# Altium integrated library Ref_altium lib_R0.IntLib: 381 symbols (part 3 of 4)
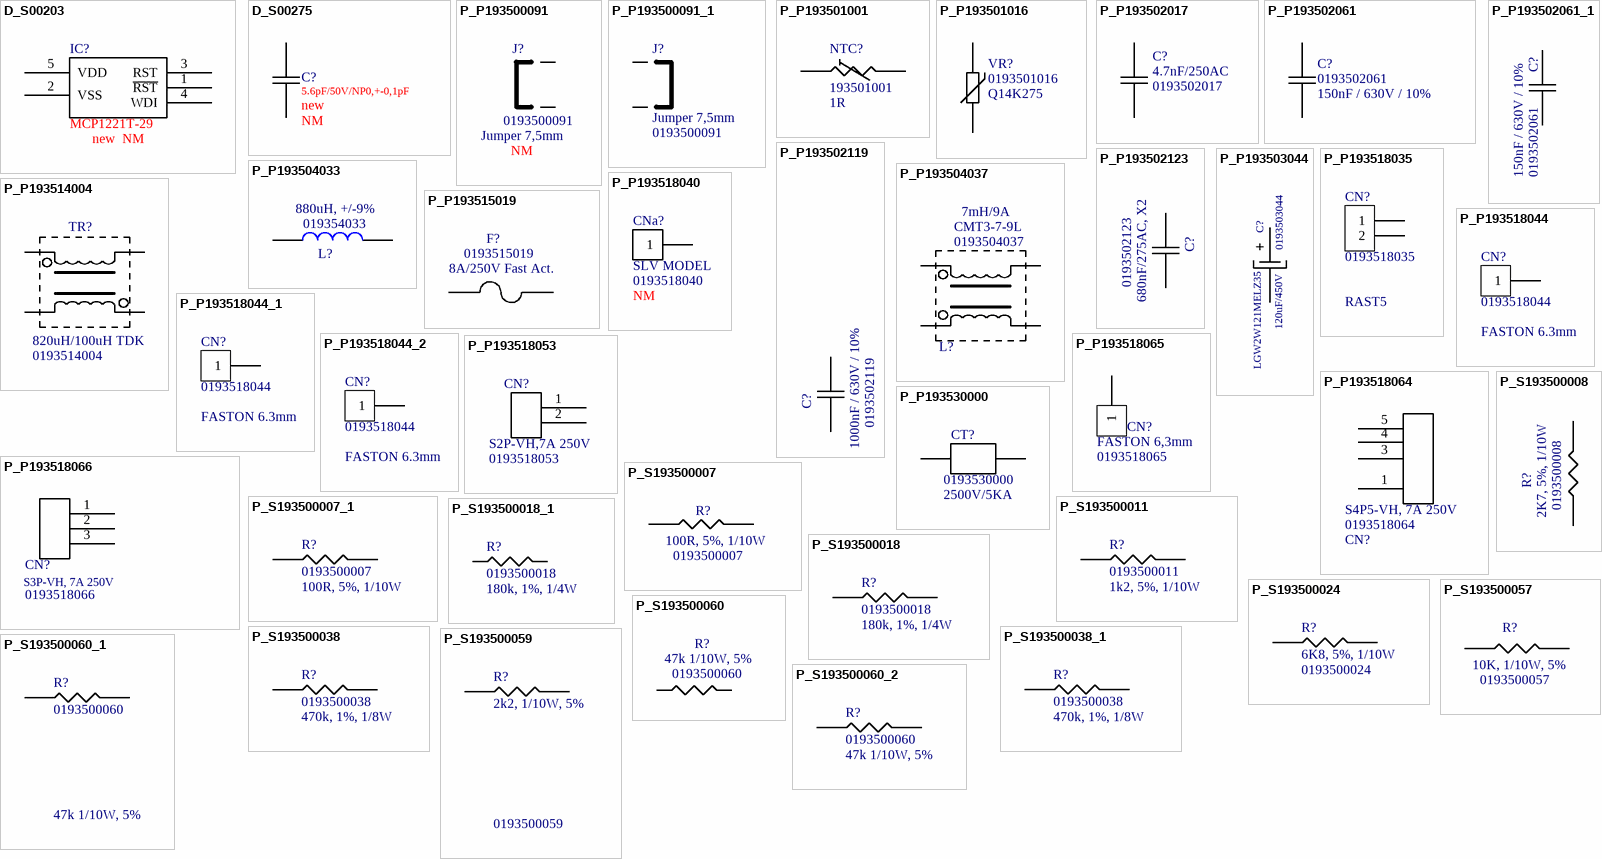
[diagram p13: symbols D_S00203 to P_S193500060_2]

## P_P193503044
designator C?  value 120uF/450V  EECON CODE: 0193503044  Text Field1: LGW2W121MELZ35  (hidden comment: *)
120uF/450V; Text Field2: NICHICON; COMPONENT: Capacitor Eletrolítico 120uF/450V/1,22A/25x30
footprint CAP-ELETR-TAM-B_V0
footprint C10X22_V0
pins: 1, 2
text: +

## P_P193504033
designator L?  value 880uH, +/-9%  EECON CODE: 019354033  (hidden comment: *)
TOROIDAL INDUCTOR - 880uH; Text Field1: AMS-225060-1-096; Text Field2: ARNOLD; COMPONENT: TOROIDAL INDUCTOR - 880uH
footprint Indutor_B
footprint INDUTOR_B_C
pins: 1, 2

## P_P193504037
designator L?  value 7mH/9A  Text Field2: CMT3-7-9L  EECON CODE: 0193504037  (hidden comment: *)
CHOKE INDUCTOR, 7mH/9A; Text Field3: Coilcraft; COMPONENT: CHOKE INDUCTOR, 7mH/9A
footprint IND_CMT3_7-9_L_V0
footprint IND_TF4725VU_TF3435_V0
pins: 1, 2, 3, 4

## P_P193514004
designator TR?  value 820uH/100uH TDK  EECON CODE: 0193514004  (hidden comment: P_P193514004)
TRANSFORMER 820uH/100uH; COMPONENT: SMPS TRANSFORMER 820uH/100uH; Text Field2: TDK; Text Field1: SRW10ES-U01V002
footprint TRAFO_TDK
pins: 1, 4, 5, 8

## P_P193515019
designator F?, comment value 8A/250V Fast Act.  EECON CODE: 0193515019  (hidden comment: Comment)
FUSE, 8A/250V Fast Act.; Text Field2: SCHURTER; COMPONENT: FUSE, SP5x20 PIGTAIL MODEL, 8A/250V FAST ACT; Text Field1: 0001.1013.TR @ T&R 1000 pçs
footprint FUSE_R_V0
footprint FUSE_O_V0
footprint FUSE_SP_5X20_PGT_V0
pins: 1, 2

## P_P193518035
designator CN?  value RAST5  EECON CODE: 0193518035  (hidden comment: P_P193518035)
POWER CON., PITCH 5mm / RAST5; COMPONENT: AC POWER CONECTOR - PITCH 5mm SERIE ECO-DOMO/RAST5; Text Field2: STOCKO; Text Field1: MTL2S8432-6-00A-202@PKG BOX 525
footprint CON MTL2_RAST5
footprint CON MTL2_RAST5_V2
pins: 1, 2

## P_P193518040
designator CNa?, comment value SLV MODEL  EECON CODE: 0193518040  OBS: NM  (hidden comment: Comment)
HEADER CON, SLV MODEL, 1 WAY; COMPONENT: HEADER CONNECTOR, SLV MODEL, 1 WAY; Text Field1: RTB1.51F(LF) @ BOX 1000PÇS; Text Field2: JST
footprint CON-SLV_V0
pins: 1

## P_P193518044
designator CN?  value FASTON 6.3mm  EECON CODE: 0193518044  (hidden comment: P_P193518044)
FASTON- 6.3 SERIES; Text Field2: AMP; Text Field1: 1217754-1; COMPONENT: TAB - FASTON - PC BOARD - 6.3 SERIES
footprint CON-FASTON-250_V0
footprint CON-FASTON-250_V1
footprint CON-FASTON-250_V3
footprint CON MTL3_RAST5_V2
pins: 1

## P_P193518044_1
designator CN?, comment value FASTON 6.3mm  EECON CODE: 0193518044  (hidden comment: P_P193518044)
FASTON- 6.3 SERIES; Text Field2: AMP; Text Field1: 1217754-1; COMPONENT: TAB - FASTON - PC BOARD - 6.3 SERIES
footprint CON-FASTON-250_V0
footprint CON-FASTON-250_V1
footprint CON-FASTON-250_V3
footprint CON-FASTON-250_V4
pins: 1

## P_P193518044_2
designator CN?, comment value FASTON 6.3mm  EECON CODE: 0193518044  (hidden comment: P_P193518044)
FASTON- 6.3 SERIES; Text Field2: AMP; Text Field1: 1217754-1; COMPONENT: TAB - FASTON - PC BOARD - 6.3 SERIES
footprint CON-FASTON-250_V0
footprint CON-FASTON-250_V1
footprint CON-FASTON-250_V3
pins: 1

## P_P193518053
designator CN?  value S2P-VH,7A 250V  EECON CODE: 0193518053  (hidden comment: *)
CON. VH SERIES SIDE W STAB., 7A 250V; COMPONENT: VH SERIES 2 WAYS, SIDE ENTRY TYPE WITH STABILIZER, 7A 250V; Text Field2: JST; Text Field1: S2P-VH (LF)(SN)
footprint CON-B2PS-VH_V0
footprint CON-S2P-VH_V0
pins: 1, 2

## P_P193518064
designator CN?  value S4P5-VH, 7A 250V  EECON CODE: 0193518064  (hidden comment: P_P193518064)
CON. VH SERIES SIDE W STAB., 7A 250V; COMPONENT: VH SERIES 5 WAYS/WITHOUT 4 WAY , SIDE ENTRY TYPE WITH STABILIZER, 7A 250V; Text Field2: JST; Text Field1: S4P5-VH (LF)(SN)
footprint CON-B3P-VH_V1
footprint CON-B4P5-VH_V0
footprint CON-B4P5S-VH_V0
pins: 1, 3, 4, 5

## P_P193518065
designator CN?, comment value FASTON 6,3mm  EECON CODE: 0193518065  (hidden comment: Tipo)
TAB FASTON VERTICAL 6.3; COMPONENT: FASTON TERMINAL VERTICAL 6,3mm; Text Field2: Tyco; Text Field1: 63849-1
footprint CON-FASTON-250_V0
footprint CON-FASTON-250_V1
footprint CON-FASTON-250_V3
footprint FASTON-48-SL_V2
footprint CON01QC-H-D
footprint CON-FASTON-250_V0
pins: 1

## P_P193518066
designator CN?  value S3P-VH, 7A 250V  EECON CODE: 0193518066  (hidden comment: P_P193518066)
CON. VH SERIES SIDE W STAB., 7A 250V; COMPONENT: VH SERIES, SIDE ENTRY TYPE WITH STABILIZER, 7A 250V; Text Field2: JST; Text Field1: S3P-VH (LF)(SN)
footprint CON-B3PS-VH_V0
footprint CON-S3P-VH_V0
pins: 1, 2, 3

## P_P193530000
designator CT?, comment value 2500V/5KA  EECON CODE: 0193530000  (hidden comment: D_P00088)
SURGE ARRESTER 2500V/5KA; Text Field2: EPCOS; COMPONENT: Surger Arrester 2500V/5KA; Text Field1: B88069X2190T502
footprint Centelhador
pins: 1, 2

## P_S193500007
designator R?  value 100R, 5%, 1/10W  EECON CODE: 0193500007
RES.,100R,1/10W,5%; COMPONENT: RES., 0603 SIZE, 100R, 5%, 1/10W; Text Field2: PHYCOMP; Text Field3: 2322 702 70101L @ REEL 13" 10000PÇS; Text Field5: 2322 702 81101L@ REEL 13" 20000PÇS; Text Field1: 2322 702 60101L @ REEL 7" 5000PÇS; Text Field4: PHYCOMP; Text Field6: PHYCOMP
footprint 0603_R_V0
footprint 0603_O_V0
pins: 1, 2

## P_S193500007_1
designator R?  value 100R, 5%, 1/10W  EECON CODE: 0193500007
RES.,100R,1/10W,5%; COMPONENT: RES., 0603 SIZE, 100R, 5%, 1/10W; Text Field3: 2322 702 70101L @ REEL 13" 10000PÇS; Text Field2: PHYCOMP; Text Field1: 2322 702 60101L @ REEL 7" 5000PÇS; Text Field5: 2322 702 81101L@ REEL 13" 20000PÇS; Text Field4: PHYCOMP; Text Field6: PHYCOMP
footprint 0603_R_V0
footprint 0603_O_V0
footprint 0805_R_V0
pins: 1, 2

## P_S193500008
designator R?  value 2K7, 5%, 1/10W  EECON CODE: 0193500008  (hidden comment: P_S193500008)
RES.,2K7,1/10W,5%; COMPONENT: RES., 0603 SIZE, 2K7R, 5%, 1/10W; Text Field2: PHYCOMP; Text Field3: 2322 702 70272L @ REEL 10" 10000PÇS; Text Field5: 2322 702 60272L @ REEL 7" 5000PÇS; Text Field1: 2322 702 81272L @ REEL 13" 20000PÇS; Text Field4: PHYCOMP; Text Field6: PHYCOMP
footprint 0603_R_V0
footprint 0603_O_V0
footprint 0603_R_V3
pins: 1, 2
1 alternate drawing of the same symbol

## P_S193500011
designator R?  value 1k2, 5%, 1/10W  EECON CODE: 0193500011  (hidden comment: P_S193500011)
RES.,1k2,1/10W,5%; COMPONENT: RES.,1k2R, 5%, 1/10W; Text Field2: PHYCOMP; Text Field3: 2322 702 70122L@ REEL 10" 10000PÇS; Text Field5: 2322 702 60122L@ REEL 7" 5000PÇS; Text Field1: 2322 702 81122L@ REEL 13" 20000PÇS; Text Field4: PHYCOMP; Text Field6: PHYCOMP
footprint 0603_R_V0
footprint 0603_O_V0
pins: 1, 2

## P_S193500018
designator R?  value 180k, 1%, 1/4W  EECON CODE: 0193500018  (hidden comment: P_S193500018)
RES.,180k,11/4W,1%; COMPONENT: RES., 1206 SIZE, 180k, 1%, 1/4W; Text Field2: PHYCOMP; Text Field3: 2322 724 71804L @ REEL 10000PÇS; Text Field5: 2322 724 61804L @ REEL 5000PÇS; Text Field1: 2322 724 81804L @ REEL 20000PÇS; Text Field4: PHYCOMP; Text Field6: PHYCOMP
footprint 1206_R_V0
footprint 1206_O_V0
pins: 1, 2

## P_S193500018_1
designator R?, comment value 180k, 1%, 1/4W  EECON CODE: 0193500018  (hidden comment: P_S193500018)
RES.,180k,11/4W,1%; COMPONENT: RES., 1206 SIZE, 180k, 1%, 1/4W; Text Field1: 2322 724 81804L @ REEL 20000PÇS; Text Field2: PHYCOMP; Text Field3: 2322 724 71804L @ REEL 10000PÇS; Text Field5: 2322 724 61804L @ REEL 5000PÇS; Text Field4: PHYCOMP; Text Field6: PHYCOMP
footprint 1206_R_V0
footprint 1206_O_V0
pins: 1, 2

## P_S193500024
designator R?  value 6K8, 5%, 1/10W  EECON CODE: 0193500024  (hidden comment: P_S193500024)
RES.,6K8,1/10W, 5%; COMPONENT: RES., 0603 SIZE, 6K8R, 5%, 1/10W; Text Field2: PHYCOMP; Text Field3: 2322 702 70682L @ REEL 10000PÇS; Text Field5: 2322 702 60682L @ REEL 5000PÇS; Text Field1: 2322 702 81682L @ REEL 20000PÇS; Text Field4: PHYCOMP; Text Field6: PHYCOMP
footprint 0603_R_V0
footprint 0603_O_V0
pins: 1, 2

## P_S193500038
designator R?  value 470k, 1%, 1/8W  EECON CODE: 0193500038  (hidden comment: P_S193500038)
RES.,470k 1/8W, 1%,; Text Field1: 2322 734 84704L @ REEL 20000PÇS; Text Field2: PHYCOMP; Text Field3: 2322 734 74704L @ REEL 10000PÇS; Text Field5: 2322 734 64704L @ REEL 5000PÇS; COMPONENT: RES., 0805 SIZE, 470k, 1%, 1/8W; Text Field4: PHYCOMP; Text Field6: PHYCOMP
footprint 0805_R_V0
footprint 0805_O_V0
footprint 0805_R_V3
pins: 1, 2

## P_S193500038_1
designator R?, comment value 470k, 1%, 1/8W  EECON CODE: 0193500038  (hidden comment: 330K / 0805)
RES.,470k 1/8W, 1%,; Text Field1: 2322 734 84704L @ REEL 20000PÇS; Text Field2: PHYCOMP; Text Field3: 2322 734 74704L @ REEL 10000PÇS; Text Field5: 2322 734 64704L @ REEL 5000PÇS; COMPONENT: RES., 0805 SIZE, 470k, 1%, 1/8W; Text Field4: PHYCOMP; Text Field6: PHYCOMP
footprint 0805_R_V0
footprint 0805_O_V0
pins: 1, 2

## P_S193500057
designator R?  value 10K, 1/10W, 5%  EECON CODE: 0193500057  (hidden comment: P_S193500057)
RES.,10k,1/10W,5%; COMPONENT: RES., 0603 SIZE, 10k, 1/10W, 5%; Text Field2: PHYCOMP; Text Field3: 2322 702 81103L @ REEL 20000PÇS; Text Field5: 2322 702 70103L @ REEL 10000PÇS; Text Field7: MCR03EZPJ103 @ PAPER TAPE 5000PÇS; Text Field1: 2322 702 60103L @ REEL 5000PÇS; Text Field8: ROHM; Text Field9: MCR03MZPJ103 @ PAPER TAPE 10000PÇS; Text Field11: RC0603JR-0710KL @ Reel 5000PÇS; Text Field12: YAGEO; Text Field13: RC0603JR-1010KL @ Reel 10000PÇS; Text Field15: RC0603JR-1310KL @ Reel 20000PÇS; Text Field4: PHYCOMP; Text Field6: PHYCOMP; Text Field14: YAGEO; Text Field16: YAGEO; Text Field10: ROHM
footprint 0603_R_V0
footprint 0603_O_V0
pins: 1, 2
1 alternate drawing of the same symbol

## P_S193500059
designator R?  value 2k2, 1/10W, 5%  EECON CODE: 0193500059  (hidden comment: P_S193500059)
RES.,2k2,1/10W,5%; COMPONENT: RES., 0603 SIZE,2k2R, 1/10W, 5%; Text Field2: PHYCOMP; Text Field3: 2322 702 70222L @ REEL 10000PÇS; Text Field5: 2322 702 81222L @ REEL 20000PÇS; Text Field7: ROHM; Text Field1: 2322 702 60222L @ REEL 5000PÇS; Text Field8: MCR03 EZP J 222 @ PAPER TAPE 5000PÇS; Text Field4: PHYCOMP; Text Field6: PHYCOMP; Text Field9: ROHM
footprint 0603_R_V0
footprint 0603_O_V0
pins: 1, 2
1 alternate drawing of the same symbol

## P_S193500060
designator R?, comment value 47k 1/10W, 5%  EECON CODE: 0193500060  (hidden comment: P_S193500014)
RES,47k,1/10W,5%; Text Field1: 2322 702 60473L @ TAPE REEL 5000PÇS; Text Field2: PHYCOMP; Text Field5: 2322 702 81473L @ TAPE REEL 20000PÇS; Text Field7: MCR03 EZH J 473 @ PAPER TAPE 5000PÇS; COMPONENT: Res 0603 SIZE, 47k, 1/10W, 5%; Text Field8: ROHM; Text Field9: MCR03 EZP J 473 @ PAPER TAPE 5000PÇS; TextField3: 2322 702 70473L @ TAPE REEL 10000PÇS; Text Field4: PHYCOMP; Text Field6: PHYCOMP; Text Field10: ROHM
footprint 0603_R_V0
footprint 0603_O_V0
pins: 1, 2
1 alternate drawing of the same symbol

## P_S193500060_1
designator R?, comment value 47k 1/10W, 5%  EECON CODE: 0193500060  (hidden comment: P_S193500060)
RES,47k,1/10W,5%; COMPONENT: Res 0603 SIZE, 47k, 1/10W, 5%; Text Field2: PHYCOMP; Text Field5: 2322 702 81473L @ TAPE REEL 20000PÇS; Text Field7: MCR03 EZH J 473 @ PAPER TAPE 5000PÇS; Text Field1: 2322 702 60473L @ TAPE REEL 5000PÇS; Text Field8: ROHM; TextField3: 2322 702 70473L @ TAPE REEL 10000PÇS; Text Field9: MCR03 EZP J 473 @ PAPER TAPE 5000PÇS; Text Field4: PHYCOMP; Text Field6: PHYCOMP; Text Field10: ROHM
footprint 0603_R_V0
footprint 0603_O_V0
pins: 1, 2
1 alternate drawing of the same symbol

## P_S193500060_2
designator R?, comment value 47k 1/10W, 5%  EECON CODE: 0193500060  (hidden comment: P_S193500060)
RES,47k,1/10W,5%; COMPONENT: Res 0603 SIZE, 47k, 1/10W, 5%; Text Field1: 2322 702 60473L @ TAPE REEL 5000PÇS; Text Field2: PHYCOMP; Text Field5: 2322 702 81473L @ TAPE REEL 20000PÇS; Text Field7: MCR03 EZH J 473 @ PAPER TAPE 5000PÇS; Text Field8: ROHM; TextField3: 2322 702 70473L @ TAPE REEL 10000PÇS; Text Field9: MCR03 EZP J 473 @ PAPER TAPE 5000PÇS; Text Field6: PHYCOMP; Text Field4: PHYCOMP; Text Field10: ROHM
footprint 0603_R_V0
footprint 0603_O_V0
footprint 0603_R_V3
pins: 1, 2
1 alternate drawing of the same symbol

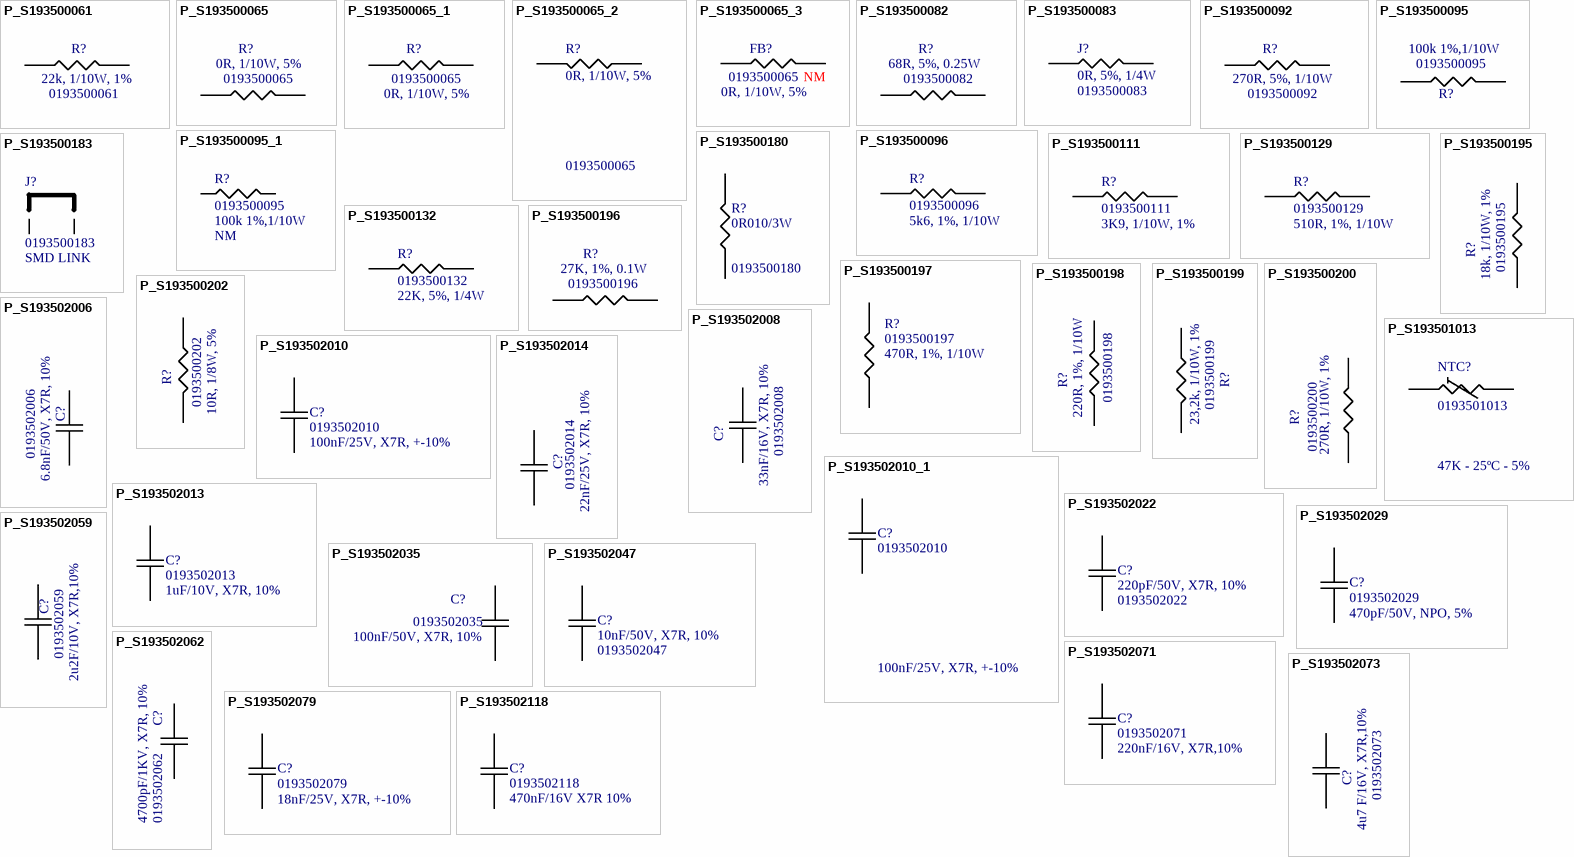
[diagram p7: symbols P_S193500061 to P_S193502118]

## P_S193500061
designator R?  value 22k, 1/10W, 1%  EECON CODE: 0193500061
RES.,22k,1/10W,1%; COMPONENT: RES 0603 SIZE, 22k, 1/10W, 1%; Text Field2: PHYCOMP; Text Field3: 2322 704 72203L @ TAPE RELL 10000PÇS; Text Field5: 2322 704 82203L @ TAPE RELL 20000PÇS; Text Field7: MCR03 EZH F 2202 @ PAPER TAPE 5000PÇS; Text Field1: 2322 704 62203L @ TAPE RELL 5000PÇS; Text Field8: ROHM; Text Field9: MCR03 EZP F 2202 @ PAPER TAPE 5000PÇS; Text Field4: PHYCOMP; Text Field6: PHYCOMP; Text Field10: ROHM
footprint 0603_R_V0
footprint 0603_O_V0
pins: 1, 2

## P_S193500065
designator R?  value 0R, 1/10W, 5%  EECON CODE: 0193500065  (hidden comment: P_S193500065)
RES.,0R,1/10W,5%; COMPONENT: RES., 0603 SIZE, 0R, 1/10W, 5%; Text Field2: PHYCOMP; Text Field3: 2322 702 97001L @ PAPER TAPE 10000PÇS; Text Field5: 2322 702 92002L @ PAPER TAPE 20000PÇS; Text Field1: 2322 702 96001L @ PAPER TAPE 5000PÇS; Text Field26: 0603WAJ000T5E @ TAPE RELL 5000PÇS; Text Field9: 0603WAJ000TAE @ TAPE RELL 500PÇS; Text Field13: ROYAL OHM; Text Field16: 0603WAJ000TDE @ TAPE RELL 20000PÇS; Text Field14: 0603WAJ000TCE @ TAPE RELL 10000PÇS; Text Field11: 0603WAJ000T9E @ TAPE RELL 9000PÇS; Text Field18: 0603WAJ000T1E @ TAPE RELL1000PÇS; Text Field20: 0603WAJ000T2E @ TAPE RELL 2000PÇS; Text Field22: 0603WAJ000T3E @ TAPE RELL 3000PÇS; Text Field24: 0603WAJ000T4E @ TAPE RELL 4000PÇS; Text Field4: PHYCOMP; Text Field6: PHYCOMP; Text Field10: ROYAL OHM; Text Field15: ROYAL OHM; Text Field17: ROYAL OHM; Text Field19: ROYAL OHM; TextField21: ROYAL OHM; Text Field23: ROYAL OHM; Text Field25: ROYAL OHM; Text Field27: ROYAL OHM
footprint 0603_R_V0
footprint 0603_O_V0
footprint 0603_R_V3
pins: 1, 2

## P_S193500065_1
designator R?, comment value 0R, 1/10W, 5%  EECON CODE: 0193500065  (hidden comment: P_S193500065)
RES.,0R,1/10W,5%; COMPONENT: RES., 0603 SIZE, 0R, 1/10W, 5%; Text Field2: PHYCOMP; Text Field3: 2322 702 97001L @ PAPER TAPE 10000PÇS; Text Field5: 2322 702 92002L @ PAPER TAPE 20000PÇS; Text Field1: 2322 702 96001L @ PAPER TAPE 5000PÇS; Text Field9: 0603WAJ000TAE @ TAPE RELL 500PÇS; Text Field13: ROYAL OHM; Text Field16: 0603WAJ000TDE @ TAPE RELL 20000PÇS; Text Field14: 0603WAJ000TCE @ TAPE RELL 10000PÇS; Text Field11: 0603WAJ000T9E @ TAPE RELL 9000PÇS; Text Field26: 0603WAJ000T5E @ TAPE RELL 5000PÇS; Text Field18: 0603WAJ000T1E @ TAPE RELL1000PÇS; Text Field20: 0603WAJ000T2E @ TAPE RELL 2000PÇS; Text Field22: 0603WAJ000T3E @ TAPE RELL 3000PÇS; Text Field24: 0603WAJ000T4E @ TAPE RELL 4000PÇS; Text Field4: PHYCOMP; Text Field6: PHYCOMP; Text Field10: ROYAL OHM; Text Field15: ROYAL OHM; Text Field17: ROYAL OHM; Text Field19: ROYAL OHM; TextField21: ROYAL OHM; Text Field23: ROYAL OHM; Text Field25: ROYAL OHM; Text Field27: ROYAL OHM
footprint 0603_R_V0
footprint 0603_O_V0
footprint 0603_R_V3
pins: 1, 2
1 alternate drawing of the same symbol

## P_S193500065_2
designator R?, comment value 0R, 1/10W, 5%  EECON CODE: 0193500065  (hidden comment: P_S193500065)
RES.,0R,1/10W,5%; Text Field2: PHYCOMP; Text Field3: 2322 702 97001L @ PAPER TAPE 10000PÇS; Text Field5: 2322 702 92002L @ PAPER TAPE 20000PÇS; COMPONENT: RES., 0603 SIZE, 0R, 1/10W, 5%; Text Field1: 2322 702 96001L @ PAPER TAPE 5000PÇS; Text Field26: 0603WAJ000T5E @ TAPE RELL 5000PÇS; Text Field9: 0603WAJ000TAE @ TAPE RELL 500PÇS; Text Field13: ROYAL OHM; Text Field16: 0603WAJ000TDE @ TAPE RELL 20000PÇS; Text Field14: 0603WAJ000TCE @ TAPE RELL 10000PÇS; Text Field11: 0603WAJ000T9E @ TAPE RELL 9000PÇS; Text Field18: 0603WAJ000T1E @ TAPE RELL1000PÇS; Text Field20: 0603WAJ000T2E @ TAPE RELL 2000PÇS; Text Field22: 0603WAJ000T3E @ TAPE RELL 3000PÇS; Text Field24: 0603WAJ000T4E @ TAPE RELL 4000PÇS; Text Field4: PHYCOMP; Text Field6: PHYCOMP; Text Field10: ROYAL OHM; Text Field15: ROYAL OHM; Text Field17: ROYAL OHM; Text Field19: ROYAL OHM; TextField21: ROYAL OHM; Text Field23: ROYAL OHM; Text Field25: ROYAL OHM; Text Field27: ROYAL OHM
footprint 0603_R_V0
footprint 0603_O_V0
footprint 0805_R_V3
pins: 1, 2

## P_S193500065_3
designator FB?  value 0R, 1/10W, 5%  EECON CODE: 0193500065  OBS: NM  (hidden comment: *)
RES.,0R,1/10W,5%; Text Field3: 2322 702 97001L @ PAPER TAPE 10000PÇS; Text Field2: PHYCOMP; COMPONENT: RES., 0603 SIZE, 0R, 1/10W, 5%; Text Field5: 2322 702 92002L @ PAPER TAPE 20000PÇS; Text Field1: 2322 702 96001L @ PAPER TAPE 5000PÇS; Text Field26: 0603WAJ000T5E @ TAPE RELL 5000PÇS; Text Field9: 0603WAJ000TAE @ TAPE RELL 500PÇS; Text Field13: ROYAL OHM; Text Field16: 0603WAJ000TDE @ TAPE RELL 20000PÇS; Text Field14: 0603WAJ000TCE @ TAPE RELL 10000PÇS; Text Field11: 0603WAJ000T9E @ TAPE RELL 9000PÇS; Text Field18: 0603WAJ000T1E @ TAPE RELL1000PÇS; Text Field20: 0603WAJ000T2E @ TAPE RELL 2000PÇS; Text Field22: 0603WAJ000T3E @ TAPE RELL 3000PÇS; Text Field24: 0603WAJ000T4E @ TAPE RELL 4000PÇS; Text Field4: PHYCOMP; Text Field6: PHYCOMP; Text Field10: ROYAL OHM; Text Field15: ROYAL OHM; Text Field17: ROYAL OHM; Text Field19: ROYAL OHM; TextField21: ROYAL OHM; Text Field23: ROYAL OHM; Text Field25: ROYAL OHM; Text Field27: ROYAL OHM
footprint 0603_R_V0
footprint 0603_O_V0
footprint 0805_R_V3
pins: 1, 2

## P_S193500082
designator R?  value 68R, 5%, 0.25W  EECON CODE: 0193500082  (hidden comment: *)
RES.,68R,1/4W,5%; Text Field1: 2322 711 61689L @ REEL 5000PÇS; Text Field2: PHYCOMP; Text Field3: 2322 711 51689L @ REEL 10000PÇS; Text Field5: 2322 711 81689L @ REEL 20000PÇS; Text Field7: MCR18EZHJ680 @ PAPER TAPE REEL 5000PÇS; COMPONENT: RES., 1206 SIZE, 1/4W, 68R, 5%; Text Field8: ROHM; Text Field4: PHYCOMP; Text Field6: PHYCOMP
footprint 1206_R_V0
footprint 1206_O_V0
pins: 1, 2

## P_S193500083
designator J?  value 0R, 5%, 1/4W  EECON CODE: 0193500083  (hidden comment: P_S193500083)
RES.,0R,1/4W,5%; COMPONENT: RES., 1206 SIZE, 0R, 5%, 1/4W; Text Field2: ROHM; Text Field3: 2322 711 91005L @ REEL 10000 PÇS; Text Field4: PHYCOMP; Text Field5: 2322 711 91032L @ REEL 5000 PÇS; Text Field7: 2322 724 92007L @ 7" 5000 PÇS - 13" 20000PÇS; Text Field1: MCR18EZHJ000 @ PAPER TAPE 5000PÇS; Text Field9: 2322 724 92006L; Text Field8: PHYCOMP; Text  Field6: PHYCOMP; Text Field10: PHYCOMP
footprint 1206_R_V0
footprint 1206_O_V0
footprint J1206_O_V0
footprint J1206_R_V0
pins: 1, 2

## P_S193500092
designator R?  value 270R, 5%, 1/10W  EECON CODE: 0193500092  (hidden comment: *)
RES.,270R,1/10W,5%; Text Field1: 2322 702 60271L @ REEL  5000PÇS; Text Field2: PHYCOMP; Text Field3: 2322 702 70271L @ REEL  10000PÇS; Text Field5: MCR03 EZH J 271 @ PAPER TAPE 5000PÇS; Text Field6: ROHM; Text Field7: 2322 702 81271L @ REEL 20000PÇS; COMPONENT: RES., 0603 SIZE, 270R, 5%, 1/10W; Text Field9: MCR03 EZP J 271 @ PAPER TAPE 5000PÇS; Text Field4: PHYCOMP; Text Field8: PHYCOMP; Text Field10: ROHM
footprint 0603_R_V0
footprint 0603_O_V0
pins: 1, 2

## P_S193500095
designator R?  value 100k 1%,1/10W  EECON CODE: 0193500095  (hidden comment: P_S193500095)
RES.,100k,1/10W,1%; COMPONENT: RES., 0603 SIZE, 100k, 1%, 1/10W; Text Field2: PHYCOMP; Text Field3: 2322 704 71004L @ REEL 10000PÇS; Text Field5: 2322 704 81004L @ REEL 20000PÇS; Text Field1: 2322 704 61004L @ REEL 5000PÇS; Text Field4: PHYCOMP; Text Field6: PHYCOMP
footprint 0603_R_V0
footprint 0603_O_V0
pins: 1, 2

## P_S193500095_1
designator R?, comment value 100k 1%,1/10W  EECON CODE: 0193500095  OBS: NM  (hidden comment: P_S193500095)
RES.,100k,1/10W,1%; COMPONENT: RES., 0603 SIZE, 100k, 1%, 1/10W; Text Field2: PHYCOMP; Text Field3: 2322 704 71004L @ REEL 10000PÇS; Text Field5: 2322 704 81004L @ REEL 20000PÇS; Text Field1: 2322 704 61004L @ REEL 5000PÇS; Text Field4: PHYCOMP; Text Field6: PHYCOMP
footprint 0603_R_V0
footprint 0603_O_V0
pins: 1, 2

## P_S193500096
designator R?  value 5k6, 1%, 1/10W  EECON CODE: 0193500096  (hidden comment: P_S193500096)
RES.,5k6,1/10W,1%; COMPONENT: RES., 0603 SIZE, 5k6, 1%, 1/10W; Text Field2: PHYCOMP; Text Field3: 2323 704 75602L @ REEL 10000PÇS; Text Field5: 2323 704 85602L @ REEL 20000PÇS; Text Field1: 2323 704 65602L @ REEL 5000PÇS; Text Field4: PHYCOMP; Text Field6: PHYCOMP
footprint 0603_R_V0
footprint 0603_O_V0
pins: 1, 2

## P_S193500111
designator R?  value 3K9, 1/10W, 1%  EECON CODE: 0193500111  (hidden comment: P_S193500111)
RES.,3k9,1/10W,1%; COMPONENT: RES, 0603 SIZE 3k9,  1% 1/10W; Text Field2: PHYCOMP; Text Field3: 2322 704 63902L @ REEL 5000PÇS; Text Field5: 2322 704 73902L @ REEL 10000PÇS; Text Field1: 2322 704 83902L @ REEL 20000PÇS; Text Field4: PHYCOMP; Text Field6: PHYCOMP
footprint 0603_R_V0
footprint 0603_O_V0
pins: 1, 2

## P_S193500129
designator R?  value 510R, 1%, 1/10W  EECON CODE: 0193500129  (hidden comment: *)
RES.,510R,1/10W,1%; COMPONENT: RES., 0603 SIZE, 510R, 1%, 1/10W; Text Field2: PHYCOMP; Text Field3: 2322 704  75101L @ REEL 10000PÇS; Text Field5: 2322 704  65101L @ REEL 5000PÇS; Text Field1: 2322 704  85101L @ REEL 20000PÇS; Text Field4: PHYCOMP; Text Field6: PHYCOMP
footprint 0603_R_V0
footprint 0603_O_V0
pins: 1, 2

## P_S193500132
designator R?  value 22K, 5%, 1/4W  EECON CODE: 0193500132  (hidden comment: P_S193500132)
RES.,22k,1/4W,5%; Text Field1: 232271161223L @ REEL 5000PÇS; Text Field2: YAGEO; COMPONENT: RES., 1206 SIZE, 1/4W, 22k, 5%
footprint 1206_R_V0
footprint 1206_O_V0
pins: 1, 2

## P_S193500180
designator R?  value 0R010/3W  EECON CODE: 0193500180  (hidden comment: *)
Res.,Shunt 0R010 3W SMD; Text Field1: WSR3R0100FEA; Text Field2: VISHAY; COMPONENT: RESISTOR SHUNT 0R01 3W SMD
footprint Res_WSR3
footprint RES_WSR3_V1
pins: 1, 2

## P_S193500183
designator J?, comment value SMD LINK  EECON CODE: 0193500183  (hidden comment: Comment)
SMD LINK 0R 15.0X2.0MM; Text Field1: 647040126; Text Field2: FT INDUSTRIAL; COMPONENT: SMD LINK 0R 15.0X2.0MM
footprint LINK15020R
pins: 1 PINO1, 2 PINO2

## P_S193500195
designator R?  value 18k, 1/10W, 1%  EECON CODE: 0193500195  (hidden comment: *)
RES.,18k,1/10W,1%; COMPONENT: FILM RESISTOR, 0603 SIZE, 18K,  1/10W, 1%; Text Field1: 232270461803L; Text Field2: PHYCOMP
footprint 0603_R_V0
pins: 1, 2

## P_S193500196
designator R?, comment value 27K, 1%, 0.1W  EECON CODE: 0193500196  (hidden comment: 27K)
RES., 27K, 1%, 0.1W; COMPONENT: FILM RES.,0603 SIZE, 27K, 1%, 0.1W; Text Field2: PHYCOMP; Text Field1: 232270462703L  @ REEL 7" 5000PÇS
footprint 0603_R_V0
footprint 0603_O_V0
pins: 1, 2

## P_S193500197
designator R?, comment value 470R, 1%, 1/10W  EECON CODE: 0193500197  (hidden comment: 27K)
RES.,470R,1/10W,1%; Text Field1: @ REEL 5000PÇS; Text Field2: PHYCOMP; COMPONENT: RES., 0603 SIZE, 470R, 1%, 1/10W; Text Field3: @ REEL 10000PÇS; Text Field5: @ REEL 20000PÇS; Text Field4: PHYCOMP; Text Field6: PHYCOMP
footprint 0603_R_V0
footprint 0603_O_V0
pins: 1, 2

## P_S193500198
designator R?  value 220R, 1%, 1/10W  EECON CODE: 0193500198  (hidden comment: *)
RES.,220R,1/10W,1%; Text Field1: 232270462201L @ REEL 7" 5000PÇS; Text Field2: PHYCOMP; COMPONENT: RES., 0603 SIZE, 220R, 1%, 1/10W
footprint 0603_R_V0
footprint 0603_O_V0
pins: 1, 2

## P_S193500199
designator R?, comment value 23,2k, 1/10W, 1%  EECON CODE: 0193500199  (hidden comment: 27k)
RES.,23,2k,1/10W,1%; Text Field1: 232270462323L @ REEL 7" 5000PÇS; Text Field2: PHYCOMP; COMPONENT: RES 0603 SIZE, 23,2k, 1/10W, 1%
footprint 0603_R_V0
footprint 0603_O_V0
pins: 1, 2

## P_S193500200
designator R?  value 270R, 1/10W, 1%  EECON CODE: 0193500200  (hidden comment: *)
RES., 270R; 1% ; 1/10W; COMPONENT: FILM RESISTOR, 0603 SIZE, 270R,  1/10W, 1%; Text Field3: PHYCOMP; Text Field2: 232270462701L  @ Reel 5000PÇS
footprint 0603_R_V0
pins: 1, 2

## P_S193500202
designator R?  value 10R, 1/8W, 5%  EECON CODE: 0193500202  (hidden comment: *)
RES., 10R, 1/8W, 5%; Text Field2: PHYCOMP; COMPONENT: FILM RESISTOR, 0805 SIZE, 10R,  1/10W, 5%; Text Field1: 232273061109L @ Reel 5000PÇS
footprint 0805_R_V0
pins: 1, 2

## P_S193501013
designator NTC?  value 47K - 25ºC - 5%  EECON CODE: 0193501013  (hidden comment: P_S193501013)
NTC,47K,25ºC,5%; COMPONENT: NTC-THER,0603 SIZE, 47K - 25  CELSIUS - 5%; Text Field2: EPCOS; Text Field3: B57331V2473J60 @ Tape Reel 4000PÇS; Text Field1: B57321V2473J060 @ 4000PÇS; Text Field4: EPCOS
footprint 0603_R_V0
footprint 0603_O_V0
pins: 1, 2

## P_S193502006
designator C?  value 6.8nF/50V, X7R, 10%  EECON CODE: 0193502006  (hidden comment: P_S193502006)
CAP.,6.8nF/50V,X7R,10%; Text Field2: PHYCOMP; Text Field3: 2238 586 15634 @ Reel 330mm (13") 15000PÇS; Text Field5: C0603C682K5RAC7533 @ REEL 4000PÇS; COMPONENT: CAP., 0603 SIZE, 6.8nF/50V, X7R, 10%; Text Field1: 2238 586 55634 @ Reel 180mm (7") 4000PÇS; Text Field6: KEMET; Text Field4: PHYCOMP
footprint 0603_R_V0
pins: 1, 2

## P_S193502008
designator C?  value 33nF/16V, X7R, 10%  EECON CODE: 0193502008  (hidden comment: P_S193502008)
CAP.,33nF/16V,X7R,10%; COMPONENT: CAP., 0603 SIZE, 33nF/16V, X7R, 10%; Text Field2: PHYCOMP; Text Field3: 2238 786 55643@ Reel 330mm (13") 15000PÇS; Text Field5: C0603C333K4RAC7533 @ REEL 4000PÇS; Text Field1: 2238 786 15643 @ Reel 180mm (7") 4000PÇS; Text Field6: KEMET; Text Field4: PHYCOMP
footprint 0603_R_V0
footprint 0603_O_V0
pins: 1, 2

## P_S193502010
designator C?  value 100nF/25V, X7R, +-10%  EECON CODE: 0193502010  (hidden comment: *)
100nF/25V, X7R, +-10%; COMPONENT: CERAMIC CAP., 0603 SIZE, 100nF/25V, X7R, +-10%; Text Field1: 2238 916 15649 @ Paper 8mm Tape Reel 180mm (7") 4000PÇS; Text Field2: PHYCOMP; Text Field3: 2238 916 55649 @ Paper 8mm Tape Reel 330mm (13") 15000PÇS; Text Field5: VJ0603Y104KXXAC @ 7" Reel/Paper Tape % VJ0603Y104KXXAT @ 7" Reel/Plastic Tape; Text Field7: VISHAY % VISHAY; Text Field4: PHYCOMP
footprint 0603_R_V0
footprint 0603_O_V0
pins: 1, 2

## P_S193502010_1
designator C?, comment value 100nF/25V, X7R, +-10%  EECON CODE: 0193502010  (hidden comment: P_S193502010)
100nF/25V, X7R, +-10%; COMPONENT: CERAMIC CAP., 0603 SIZE, 100nF/25V, X7R, +-10%; Text Field1: 2238 916 15649 @ Paper 8mm Tape Reel 180mm (7") 4000PÇS; Text Field2: PHYCOMP; Text Field3: 2238 916 55649 @ Paper 8mm Tape Reel 330mm (13") 15000PÇS; Text Field5: VJ0603Y104KXXAC @ 7" Reel/Paper Tape % VJ0603Y104KXXAT @ 7" Reel/Plastic Tape; Text Field7: VISHAY % VISHAY; Text Field4: PHYCOMP
footprint 0603_R_V0
footprint 0603_O_V0
footprint 0603_R_V3
pins: 1, 2

## P_S193502013
designator C?  value 1uF/10V, X7R, 10%  EECON CODE: 0193502013  (hidden comment: P_S193502013)
CAP.,1uF/10V, X7R,10%; COMPONENT: CAP., 0805 SIZE, 1uF/10V, X7R, +-10%; Text Field2: PHYCOMP; Text Field3: 2222 240 55663 @ Reel (13") 10000PÇS; Text Field1: 2222 240 15663 @ Reel (7") 3000PÇS; Text Field4: PHYCOMP
footprint 0805_R_V0
footprint 0805_O_V0
pins: 1, 2

## P_S193502014
designator C?  value 22nF/25V, X7R, 10%  EECON CODE: 0193502014  (hidden comment: P_S193502014)
CAP.,22nF/25V, X7R,10%; COMPONENT: CAP., 0603 SIZE, 22nF/25V, X7R, 10%; Text Field2: PHYCOMP; Text Field3: 2238 916 55641 @ Reel (13") 15000PÇS; Text Field1: 2238 916 15641 @ Reel (7") 4000PÇS; Text Field4: PHYCOMP
footprint 0603_R_V0
footprint 0603_O_V0
pins: 1, 2

## P_S193502022
designator C?  value 220pF/50V, X7R, 10%  EECON CODE: 0193502022  (hidden comment: P_S193502022)
CAP.,220pF/50V, X7R,10%; COMPONENT: CAP., 0603 SIZE, 220pF/50V, X7R, 10%; Text Field2: PHYCOMP; Text Field3: 2238 586 55614 @ (13")  15000PÇS; Text Field1: 2238 586 15614 @ (7") 4000PÇS; Text  Field5: C0603C221K1GAC7533 @ Reel 4000; Text  Field6: KEMET; Text Field4: PHYCOMP
footprint 0603_R_V0
footprint 0603_O_V0
pins: 1, 2

## P_S193502029
designator C?  value 470pF/50V, NPO, 5%  EECON CODE: 0193502029  (hidden comment: P_S193502029)
CAP.,470pF/50V,NPO,5%; Text Field2: PHYCOMP; Text Field3: 2238 861 75471 @ Reel (13") 20000PÇS; COMPONENT: CAP., 0805 SIZE, 470pF/50V, NPO, 5%; Text Field1: 2238 861 15471 @ Reel (7") 4000PÇS; Text Field4: PHYCOMP
footprint 0805_R_V0
footprint 0805_O_V0
pins: 1, 2

## P_S193502035
designator C?  value 100nF/50V, X7R, 10%  EECON CODE: 0193502035  (hidden comment: *)
CAP.,100nF/50V, X7R,10%; COMPONENT: CAP., 0805 SIZE, 100nF/50V, X7R, 10%; Text Field1: 2238 580 15649 @ Reel 4000PÇS; Text Field2: PHYCOMP; Text Field3: 222258015649 @ Reel 3000PÇS; Text Field4: YAGEO; Text Field5: B37941-K5104-K70 @ Reel 16000PÇS; Text Field7: 2238 580 55649 @ Reel 15000PÇS; Text Field6: EPCOS; Text Field9: B37941-K5104-K60 @ Reel 4000PÇS; Text Field8: PHYCOMP; Text Field10: EPCOS
footprint 0805_R_V0
footprint 0805_O_V0
pins: 1, 2

## P_S193502047
designator C?  value 10nF/50V, X7R, 10%  EECON CODE: 0193502047  (hidden comment: P_S193502047)
CAP.,10nF/50V, X7R,10%; COMPONENT: CAP., 0603 SIZE, 10nF/50V, X7R, 10%; Text Field2: PHYCOMP; Text Field3: 2238 586 55636 @ Reel 330mm(13") 15000PÇS; Text Field5: C0603KRX7R9BB103 @ 180mm(7") Reel 4000PÇS; Text Field1: 2238 586 15636 @ Reel 180mm(7") 4000PÇS; Text Field7: C0603KPX7R9BB103 @ 330mm(13") Reel 15000PÇS; Text Field6: YAGEO; Text Field9: C0603C103K5RACTU @ 180mm(7") Reel 4000PÇS; Text Field10: KEMET; Text Field11: C0603C103K5RAC7411 @ 330mm(13") Reel 10000PÇS; Text Field13: VJ0603Y103KXAAC @ 180mm(7")Reel/4000PÇS; Text Field14: VISHAY; Text Field15: VJ0603Y103KXAAT @ 180mm(7")Reel/4000PÇS; Text Field4: PHYCOMP; Text Field8: YAGEO; Text Field12: KEMET; Text Field16: VISHAY
footprint 0603_R_V0
footprint 0603_O_V0
pins: 1, 2

## P_S193502059
designator C?  value 2u2F/10V, X7R,10%  EECON CODE: 0193502059  (hidden comment: P_S193502059)
CAP:,2u2F/10V, X7R,10%; COMPONENT: CAP.,1206 SIZE,2u2F/10V, X7R,10%; Text Field2: PHYCOMP; Text Field3: 2222 241 15667 @ Reel 10000PÇS; Text Field1: 2222 241 55667 @ Reel 3000PÇS; Text Field4: PHYCOMP
footprint 1206_R_V0
footprint 1206_O_V0
pins: 1, 2

## P_S193502062
designator C?  value 4700pF/1KV, X7R, 10%  EECON CODE: 0193502062  (hidden comment: P_S193502062)
CAP.,4700pF/1KV, X7R,10%; COMPONENT: CAP.,1812 SIZE,4700pF/1KV, X7R,10%; Text Field2: PHYCOMP; Text Field3: 2222 004 15632 @ Reel  2000PÇS; Text Field1: 2250 004 15632 @ Reel 1000PÇS; Text Field4: PHYCOMP
footprint 1812_R_V0
footprint 1812_O_V0
footprint 2010_R_V0
pins: 1, 2

## P_S193502071
designator C?  value 220nF/16V, X7R,10%  EECON CODE: 0193502071  (hidden comment: P_S193502071)
CAP.,220nF/16V,X7R,10%; Text Field1: 2238 780 15654 @ Reel 4000PÇS; Text Field2: PHYCOMP; COMPONENT: CAP.,0805 SIZE,220nF/16V,X7R,10%
footprint 0805_R_V0
footprint 0805_R_V0
pins: 1, 2

## P_S193502073
designator C?  value 4u7 F/16V, X7R,10%  EECON CODE: 0193502073  (hidden comment: P_S193502073)
CAP.,4u7F/16V, X7R,10%; COMPONENT: CAP.,1206 SIZE,4u7F/16V, X7R,10%; Text Field2: PHYCOMP; Text Field3: C1206C475K4RAC7533 @ Reel 2500PÇS; Text Field1: 2222 781 15672 @ Reel 3000PÇS; Text Field4: KEMET
footprint 1206_R_V0
footprint 1206_O_V0
pins: 1, 2

## P_S193502079
designator C?  value 18nF/25V, X7R, +-10%  EECON CODE: 0193502079  (hidden comment: *)
18nF/25V, X7R, +-10%; COMPONENT: CERAMIC CAP., 0603 SIZE, 18nF/25V, X7R, +-10%; Text Field2: 2238 916 55639 @ Paper Tape & 330mm (13 Inch); Text Field3: PHYCOMP; Text Field4: 2238 586 55639 @ Paper Tape & 330mm (13 Inch); Text Field5: PHYCOMP
footprint 0603_R_V0
footprint 0603_O_V0
pins: 1, 2

## P_S193502118
designator C?  value 470nF/16V X7R 10%  EECON CODE: 0193502118  (hidden comment: P_S193502118)
CAP.,470nF/16V, X7R,10%; Text Field1: 2222 7801 5658; Text Field2: YAGEO; COMPONENT: CAP., 0805 SIZE, 470nF/16V, X7R, 10%
footprint 0805_R_V0
footprint 0805_O_V0
footprint 1206_R_V0
footprint 0805_R_V3
pins: 1, 2

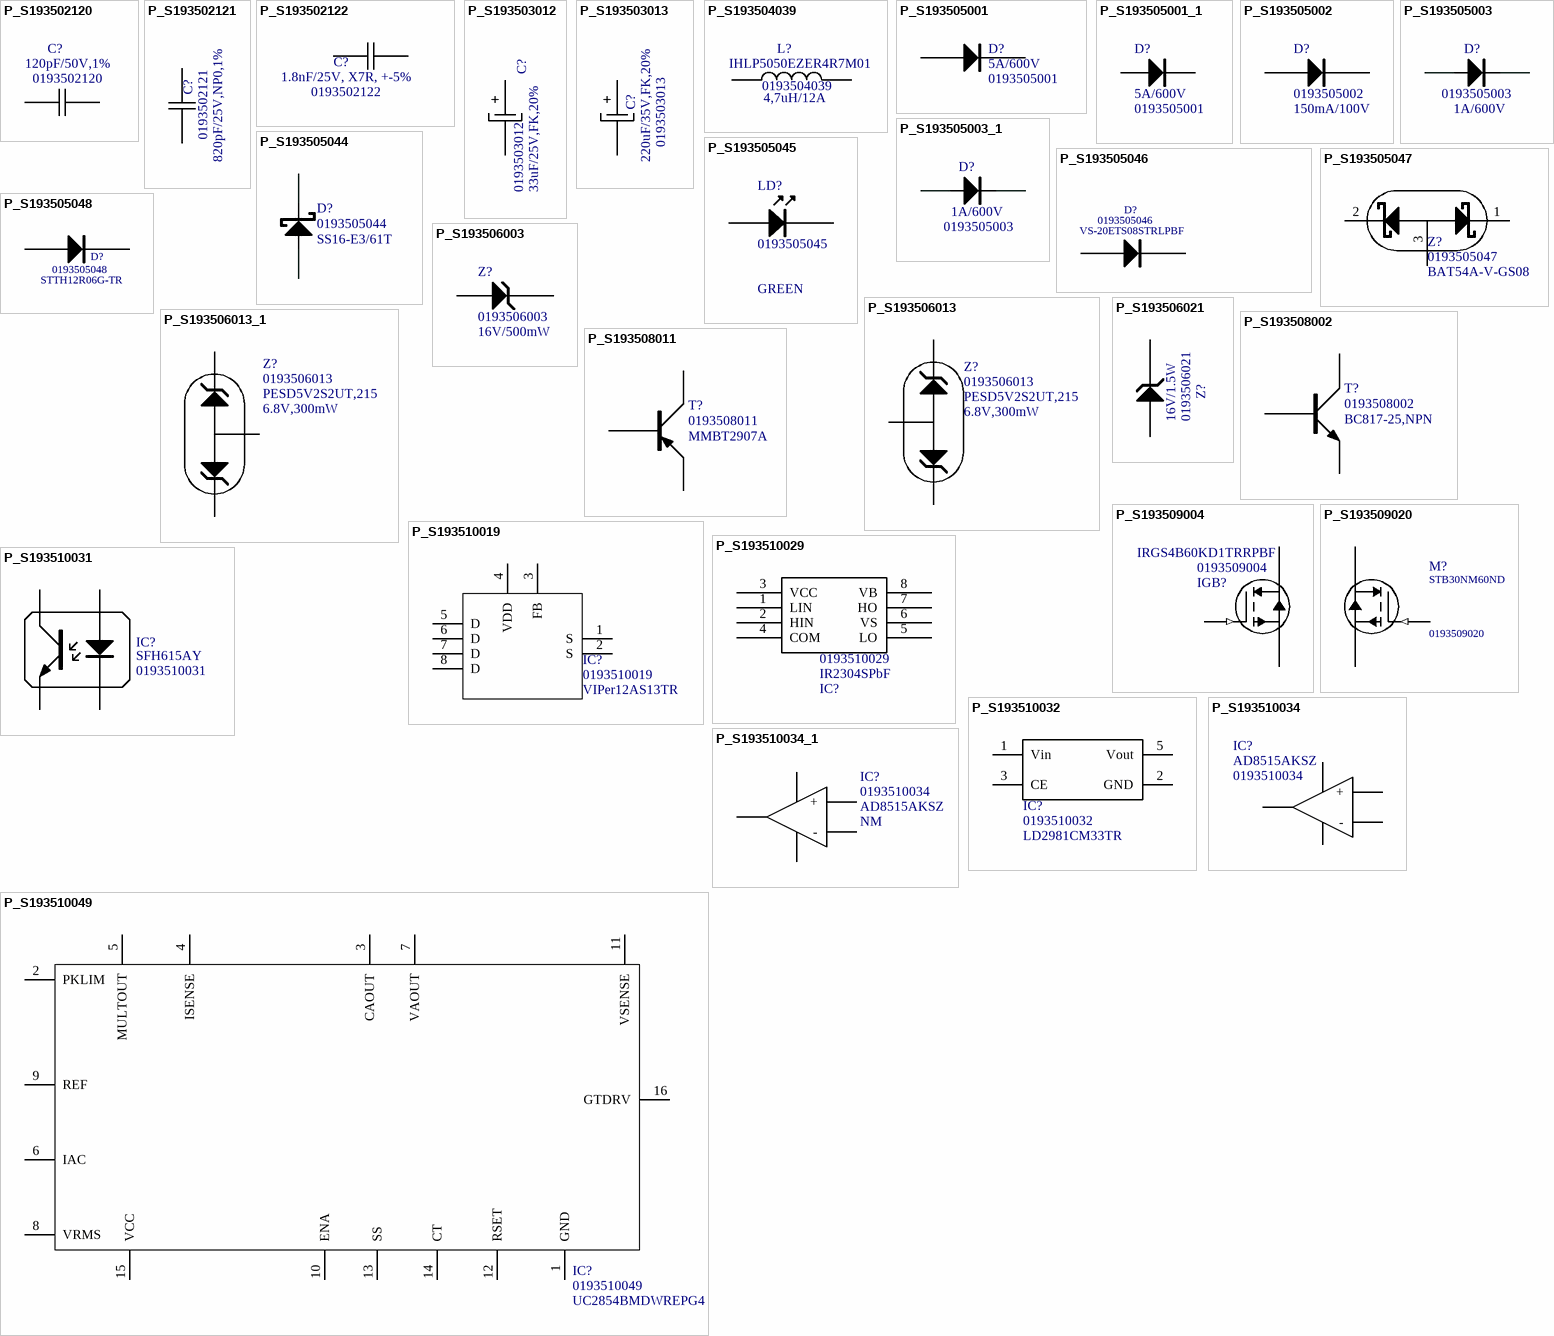
[diagram p8: symbols P_S193502120 to P_S193510049]

## P_S193502120
designator C?  value 120pF/50V,1%  EECON CODE: 0193502120  (hidden comment: P_S193502120)
CAP.,120pF/50V,1%; Text Field1: 223886718121 @ REEL 7" 5000PÇS; Text Field2: PHYCOMP; COMPONENT: CAP.,0603 SIZE,120pF/50V,1%
footprint 0603_R_V0
footprint 0805_O_V0
pins: 1, 2

## P_S193502121
designator C?, comment value 820pF/25V,NP0,1%  EECON CODE: 0193502121  (hidden comment: 1.2nF)
CAP.,820pF/25V, NP0,1%; Text Field1: 223891611348 @ Reel 5000PÇS; Text Field2: PHYCOMP; COMPONENT: CAP.,0603 SIZE,820pF/25V,NP0,1%
footprint 0603_R_V0
footprint 0603_O_V0
pins: 1, 2

## P_S193502122
designator C?, comment value 1.8nF/25V, X7R, +-5%  EECON CODE: 0193502122  (hidden comment: 1.5nF)
CAP.,0603 SIZE,1,8nF/25V, X7R,5%; COMPONENT: CERAMIC CAP.,0603 SIZE,1,8nF/25V, X7R,5%; Text Field2: PHYCOMP; Text Field1: 223891615526  @ Reel 5000PÇS
footprint 0603_R_V0
footprint 0603_O_V0
pins: 1, 2

## P_S193503012
designator C?  value 33uF/25V,FK,20%  EECON CODE: 0193503012  (hidden comment: P_S193503012)
CAP.ELET.,33uF/25,FK,20%; COMPONENT: CAP.ELET. ,33uF/25,FK Model,2000h,105C,20%; Text Field2: PANASONIC; Text Field1: EEEFK1E330UR @ AMMOPACK 1000PÇS
footprint CAP-ELETRO-C_R_V0
footprint CAP-ELETRO-C_R_V1
pins: 1, 2
text: +

## P_S193503013
designator C?  value 220uF/35V,FK,20%  EECON CODE: 0193503013  (hidden comment: P_S193503013)
CAP.ELET.,220uF/35V,FK,20%; COMPONENT: CAP.ELET.,220uF/35FK Model , 2000h,105C, 20%; Text Field2: PANASONIC; Text Field1: EEEFK1V221P @ AMMOPACK 500PÇS
footprint CAP-ELETRO-F_R_V0
footprint CAP-ELETRO-F_R_V1
pins: 1, 2
text: +

## P_S193504039
designator L?, comment value 4,7uH/12A  EECON CODE: 0193504039  Text Field2: IHLP5050EZER4R7M01  (hidden comment: Comment)
Low profile, High Current Inductor 4,7uH/12A; Text Field3: VISHAY; COMPONENT: Low profile, High Current Inductor 4,7uH/12A
footprint Indutor_S
footprint INDUTOR_S2
footprint INDUCTOR_RL8250-3-3R3M (SMT Power inductor 3.30uH @ 16.75Arms)
pins: 1, 2

## P_S193505001
designator D?  value 5A/600V  EECON CODE: 0193505001  (hidden comment: *)
DIODE 5A/600V; Text Field1: S5JC-13-F @ TAPE & REEL 3000PÇS; Text Field2: DIODES; COMPONENT: DIODE, SMC,5A/600V
footprint SMC_R_V0
footprint SMC_O_V0
pins: 1, 2

## P_S193505001_1
designator D?  value 5A/600V  EECON CODE: 0193505001  (hidden comment: *)
DIODE 5A/600V; Text Field1: S5JC-13-F @ TAPE & REEL 3000PÇS; Text Field2: DIODES; COMPONENT: DIODE, SMC,5A/600V
footprint SMC_R_V0
footprint SMC_O_V0
pins: 1, 2

## P_S193505002
designator D?  value 150mA/100V  EECON CODE: 0193505002  (hidden comment: P_S193505002)
FAST DIODE,150mA/100V; COMPONENT: FAST SWITCHING DIODE 150mA/100V MINIMELF-SOD-80; Text Field2: VISHAY; Text Field3: LL4148-GS18 @ Reel 10000PÇS; Text Field5: LS4148GS08 @ Reel 2500PÇS; Text Field1: LL4148 GS08 @ Reel 2500PÇS; Text Field4: VISHAY; Text Field6: VISHAY
footprint MINIMELF_R_V0
footprint MINIMELF_O_V0
pins: 1, 2

## P_S193505003
designator D?  value 1A/600V  EECON CODE: 0193505003  (hidden comment: P_S193505003)
FAST DIODE,1A/600V; COMPONENT: FAST RECOVER DIODE, 1A/600V, DO213-AB; Text Field2: GENERAL SEMICONDUCTOR; Text Field3: BYM11-600-E3/76 @ Reel 1500PÇS; Text Field1: BYM11-600-E3/96 @ Reel 1500PÇS; Text Field5: BYM11-600-E3/76 - GS @ Reel 5000PÇS; Text Field6: VISHAY; Text Field7: BYM11-600-E3/96 - GS @ Reel 1500PÇS; Text Field4: GENERAL SEMICONDUCTOR; Text Field8: VISHAY
footprint MELF_R_V0
footprint MELF_O_V0
pins: 1, 2

## P_S193505003_1
designator D?, comment value 1A/600V  EECON CODE: 0193505003  (hidden comment: P_S193505003)
FAST DIODE,1A/600V; COMPONENT: FAST RECOVER DIODE, 1A/600V, DO213-AB; Text Field2: GENERAL SEMICONDUCTOR; Text Field3: BYM11-600-E3/76 @ Reel 1500PÇS; Text Field1: BYM11-600-E3/96 @ Reel 1500PÇS; Text Field5: BYM11-600-E3/76 - GS @ Reel 5000PÇS; Text Field6: VISHAY; Text Field7: BYM11-600-E3/96 - GS @ Reel 1500PÇS; Text Field4: GENERAL SEMICONDUCTOR; Text Field8: VISHAY
footprint MELF_R_V0
footprint MELF_O_V0
footprint MELF_R_V1
pins: 1, 2

## P_S193505044
designator D?  value SS16-E3/61T  EECON CODE: 0193505044  (hidden comment: P_S193505044)
SCHOTTKY DIODE,SMA,1A / 60V; Text Field1: SS16-E3/61T @  Reel 7"1800PÇS  -- 13"7500PÇS; Text Field2: Vishay; COMPONENT: SCHOTTKY DIODE,SMA,1A / 60V
footprint SMA_403D_R_V0
footprint SMA_403D_O_V0
footprint MELF_R_V0
pins: 1, 2

## P_S193505045
designator LD?  value GREEN  EECON CODE: 0193505045  (hidden comment: P_S193505045)
LAMP LED, 3.2X1.0MM, GREEN; Text Field1: XZDG88WT1; Text Field2: SUNLED; COMPONENT: LAMP CHIP LED,3.2X1.0MM, GREEN
footprint SML310W_R_V0
footprint SML310W_R_V1
pins: 1 K, 2 A

## P_S193505046
designator D?  Text Field1: VS-20ETS08STRLPBF  EECON CODE: 0193505046  (hidden comment: *)
RECTIFIER DIODE 20A/800V; Text Field2: VISHAY; Value: 20A/800V; COMPONENT: RECTIFIER DIODE 20A/800V
footprint SMC_R_V0
footprint SMC_O_V0
footprint D2PAK_R_V0
pins: 1, 2

## P_S193505047
designator Z?, comment value BAT54A-V-GS08  EECON CODE: 0193505047  (hidden comment: P_S193506011)
DIODO Schottky; COMPONENT: SMD SCHOTTKY DIODE, DOUBLE COMMON ANODE, SOT23; Text Field2: VISHAY; Text Field1: BAT54A-V-GS08 @ Reel 3000PÇS
footprint SOT-23_R_V0
footprint SOT-23_O_V0
pins: 1, 2, 3
1 alternate drawing of the same symbol

## P_S193505048
designator D?, comment Text Field2: STTH12R06G-TR  EECON CODE: 0193505048  (hidden comment: D_S00027)
ULTRAFAST DIODE 12A / 600V; Text Field3: ST; Value: 12A/600V Uf; COMPONENT: ULTRAFAST DIODE 12A / 600V
footprint D2PAK_O_V2
footprint D2PAK_O_V0
footprint D2PAK_R_V0
pins: 1, 2

## P_S193506003
designator Z?, comment EECON CODE: 0193506003  (hidden comment: 16V/500mW)
DIODE ZENER,16V/500mW; Text Field1: MMSZ4703T1G @ Reel 3000PÇS; Text Field2: ON SEMICONDUTOR; Text Field3: MMSZ4703-V-GS08 @ Reel 3000PÇS; COMPONENT: DIODE ZENER  16V/500mW; Text Field4: Vishay; Value: 16V/500mW
footprint SOD-123_R_V0
footprint SOD-123_O_V0
pins: 1, 2

## P_S193506013
designator Z?  value 6.8V,300mW  EECON CODE: 0193506013  Text Field1: PESD5V2S2UT,215  (hidden comment: P_S193506013)
DIODO Zener,6,8V, 300mW; COMPONENT: SMD DIODE ZENER, DOUBLE COMMON ANODE, SOT23 6.8V,300mW; Text Field2: NXP
footprint SOT-23_R_V0
footprint SOT-23_O_V0
pins: 1, 2, 3

## P_S193506013_1
designator Z?, comment value 6.8V,300mW  EECON CODE: 0193506013  Text Field1: PESD5V2S2UT,215  (hidden comment: P_S193506013)
DIODO Zener,6,8V, 300mW; COMPONENT: SMD DIODE ZENER, DOUBLE COMMON ANODE, SOT23 6.8V,300mW; Text Field2: NXP
footprint SOT-23_R_V0
footprint SOT-23_O_V0
pins: 1, 2, 3

## P_S193506021
designator Z?  value 16V/1.5W  EECON CODE: 0193506021  (hidden comment: P_S193506021)
DIODE ZENER,16V/1.5W; Text Field1: SMAZ5930B-E3/61; Text Field2: VISHAY; COMPONENT: DIODE ZENER  16V/1.5W
footprint SMA_403D_R_V0
footprint SOD-123_O_V0
pins: 1, 2

## P_S193508002
designator T?  value BC817-25,NPN  EECON CODE: 0193508002  (hidden comment: *)
TRANSISTOR, NPN; COMPONENT: TRANSISTOR, NPN, SOT23; Text Field1: BC817-25LT1G @ Reel 3000PÇS; Text Field2: ON SEMICONDUCTOR; Text Field3: BC817-25 @ Reel 10000/3000PÇS; Text Field4: PHILIPS
footprint SOT-23_R_V0
footprint SOT-23_O_V0
pins: 1, 2, 3

## P_S193508011
designator T?  value MMBT2907A  EECON CODE: 0193508011  (hidden comment: P_S193508011)
TRANSISTOR,PNP; COMPONENT: SMT,SOT-23,PNP,FAST SWITCHING TRANSISTOR; Text Field2: FAIRCHILD; Text Field1: MMBT2907A
footprint SOT-23_R_V0
footprint SOT-23_O_V0
pins: 1, 2, 3

## P_S193509004
designator IGB?  value IRGS4B60KD1TRRPBF  EECON CODE: 0193509004  (hidden comment: P_S193509004)
IGBT 7,6A/600V; COMPONENT: VERY FAST POWER IGBT 7,6A/600V; Text Field2: IR; Text Field1: IRGS4B60KD1TRRPBF@ Standard Pack 50000PÇS
footprint D2PAK_O_V0
footprint D2PAK_R_V0
pins: 1 G (in), 2 C, 3 E
1 alternate drawing of the same symbol

## P_S193509020
designator M?  Text Field1: STB30NM60ND  EECON CODE: 0193509020  (hidden comment: P_S193509020)
MOSFET 16A@100C / 600V; Text Field2: ST; COMPONENT: MOSFET 16A@100C / 600V; value: 16A@100C / 600V
footprint D2PAK_O_V0
footprint D2PAK_R_V0
pins: 1 (in), 2, 3
1 alternate drawing of the same symbol

## P_S193510019
designator IC?  value VIPer12AS13TR  EECON CODE: 0193510019  (hidden comment: *)
LOW POWER 400mA; COMPONENT: LOW POWER OFF LINE PRIMARY SWITCHER 400mA; Text Field2: VIPER12ASTR-E; Text Field3: ST
footprint SO-8_R_V0
footprint SO-8_O_V0
pins: 1 S, 2 S, 3 FB, 4 VDD, 5 D, 6 D, 7 D, 8 D

## P_S193510029
designator IC?  value IR2304SPbF  EECON CODE: 0193510029  (hidden comment: P_S193510029)
HIGH-VOLTAGE,LOW SIDE DRIVER; COMPONENT: IC, HIGH-VOLTAGE HIGH AND LOW SIDE DRIVER; Text Field2: IR; Text Field1: IR2304SPbF@ Standard  Pack 95PÇS
footprint SO-8_R_V0
footprint SO-8_O_V0
pins: 1 LIN, 2 HIN, 3 VCC, 4 COM, 5 LO, 6 VS, 7 HO, 8 VB

## P_S193510031
designator IC?, comment value SFH615AY  EECON CODE: 0193510031  (hidden comment: H11A8173SD)
OPTOACOPLADOR; COMPONENT: IC, OPTOACOPLADOR, VDE0884 APPROVED; Text Field2: VISHAY; Text Field1: SFH615AY-X019T
footprint OPTO_R_V0
footprint OPTO_O_V0
pins: 1, 2, 3, 4

## P_S193510032
designator IC?  value LD2981CM33TR  EECON CODE: 0193510032  (hidden comment: P_S193510032)
REGULADOR 150mA; COMPONENT: LINEAR VOLTAGE REGULADOR, SERIE MC78P00, LOW NOISE 150mA, LDO; Text Field2: ST; Text Field1: LD2981CM33TR @ Tape and Reel  3000PÇS
footprint SOT-23-5_R_V0
footprint SOT-23-5_R_V1
pins: 1 Vin, 2 GND, 3 CE, 5 Vout

## P_S193510034
designator IC?  value AD8515AKSZ  EECON CODE: 0193510034  (hidden comment: P_S193510034)
CMOS AMPLIFIER; COMPONENT: SINGLE ULTRA-LOW COST, RAIL-TO-RAIL I/O CMOS AMPLIFIER; Text Field2: Analog; Text Field1: AD8515AKSZ-REEL7 @ 1000PÇS
footprint SC70-5_O_V0
footprint SC70-5_R_V0
footprint SC70-5_R_V1
pins: 1, 2, 3 +, 4 -, 5

## P_S193510034_1
designator IC?, comment value AD8515AKSZ  EECON CODE: 0193510034  OBS: NM  (hidden comment: P_S193510034)
CMOS AMPLIFIER; COMPONENT: SINGLE ULTRA-LOW COST, RAIL-TO-RAIL I/O CMOS AMPLIFIER; Text Field2: Analog; Text Field1: AD8515AKSZ-REEL7 @ 1000PÇS
footprint SC70-5_O_V0
footprint SC70-5_R_V0
footprint SC70-5_R_V1
pins: 1, 2, 3 +, 4 -, 5

## P_S193510049
designator IC?, comment value UC2854BMDWREPG4  EECON CODE: 0193510049  (hidden comment: UC3854B)
ADVANCED HIGH-POWER FACTOR PREREGULATOR; Text Field3: TEXAS; COMPONENT: ADVANCED HIGH-POWER FACTOR PREREGULATOR; Text Field2: UC2854BMDWREPG4
footprint SOIC16_R_V0
footprint SOIC-16W_O_V0
pins: 1 GND, 2 PKLIM, 3 CAOUT, 4 ISENSE, 5 MULTOUT, 6 IAC, 7 VAOUT, 8 VRMS, 9 REF, 10 ENA, 11 VSENSE, 12 RSET, 13 SS, 14 CT, 15 VCC, 16 GTDRV

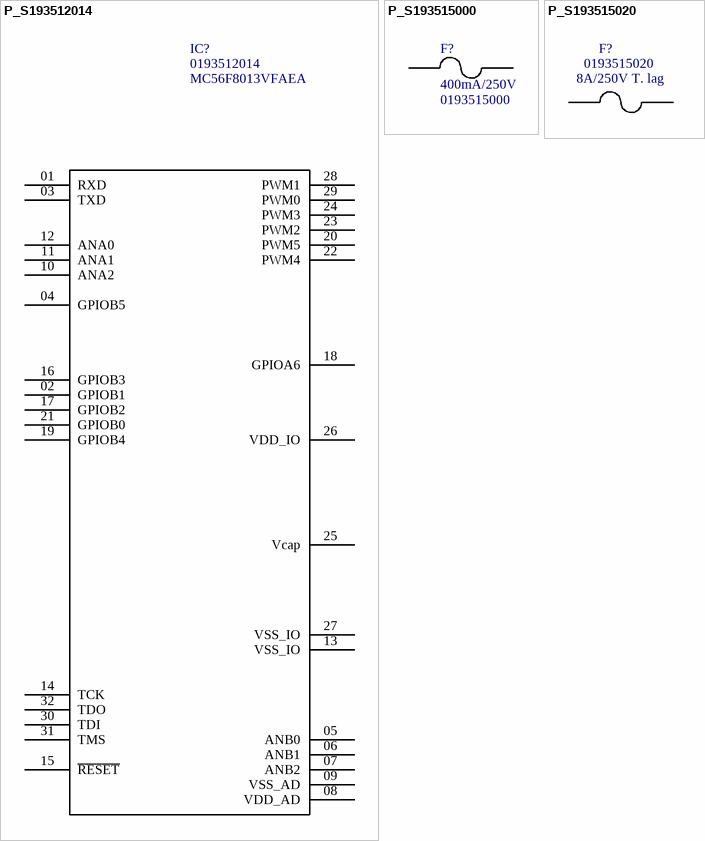
[diagram p9: symbols P_S193512014 to P_S193515020]

## P_S193512014
designator IC?  value MC56F8013VFAEA  EECON CODE: 0193512014  (hidden comment: *)
DSP, VCC3 X11; COMPONENT: DSP FREESCALE FLASH - VCC3 X11; Text Field1: MC56F8013VFAE @ 10000PÇS
footprint S-PDFP-G32_R_V0 - LF
footprint S-PDFP-G32_R_VS0
footprint S-PDFP-G32_R_V2
pins: 01 RXD, 02 GPIOB1, 03 TXD, 04 GPIOB5, 05 ANB0, 06 ANB1, 07 ANB2, 08 VDD_AD, 09 VSS_AD, 10 ANA2, 11 ANA1, 12 ANA0, 13 VSS_IO, 14 TCK, 15 ~{RESET}, 16 GPIOB3, 17 GPIOB2, 18 GPIOA6, 19 GPIOB4, 20 PWM5, 21 GPIOB0, 22 PWM4, 23 PWM2, 24 PWM3, 25 Vcap, 26 VDD_IO, 27 VSS_IO, 28 PWM1, 29 PWM0, 30 TDI, 31 TMS, 32 TDO
1 alternate drawing of the same symbol

## P_S193515000
designator F?  value 400mA/250V  EECON CODE: 0193515000  (hidden comment: P_S193515000)
FUSE, 400mA/250V; Text Field2: SCHURTER; COMPONENT: FUSE, OMF250 MODEL, 400mA/250V, VDE/UL APPROVED; Text Field1: 3403001224 @  T&R 1000PÇS
footprint FUSE_R_V0
footprint FUSE_O_V0
footprint FUSE_R_V1
pins: 1, 2

## P_S193515020
designator F?  value 8A/250V T. lag  EECON CODE: 0193515020  (hidden comment: P_S193515020)
TIME LAG FUSE, 250V/8A; Text Field2: 0001.2713.22 @ T&R 2000PÇS; Text Field3: SCHURTER; COMPONENT: SURFACE MOUNT FUSE TYPE - SPT5x20 TIME LAG  8A/250V
footprint FUSE- SMD- 5X20_R_V0
footprint FUSE- SMD- 5X20_O_V0
footprint FUSE_SPT_R_V0
pins: 1, 2


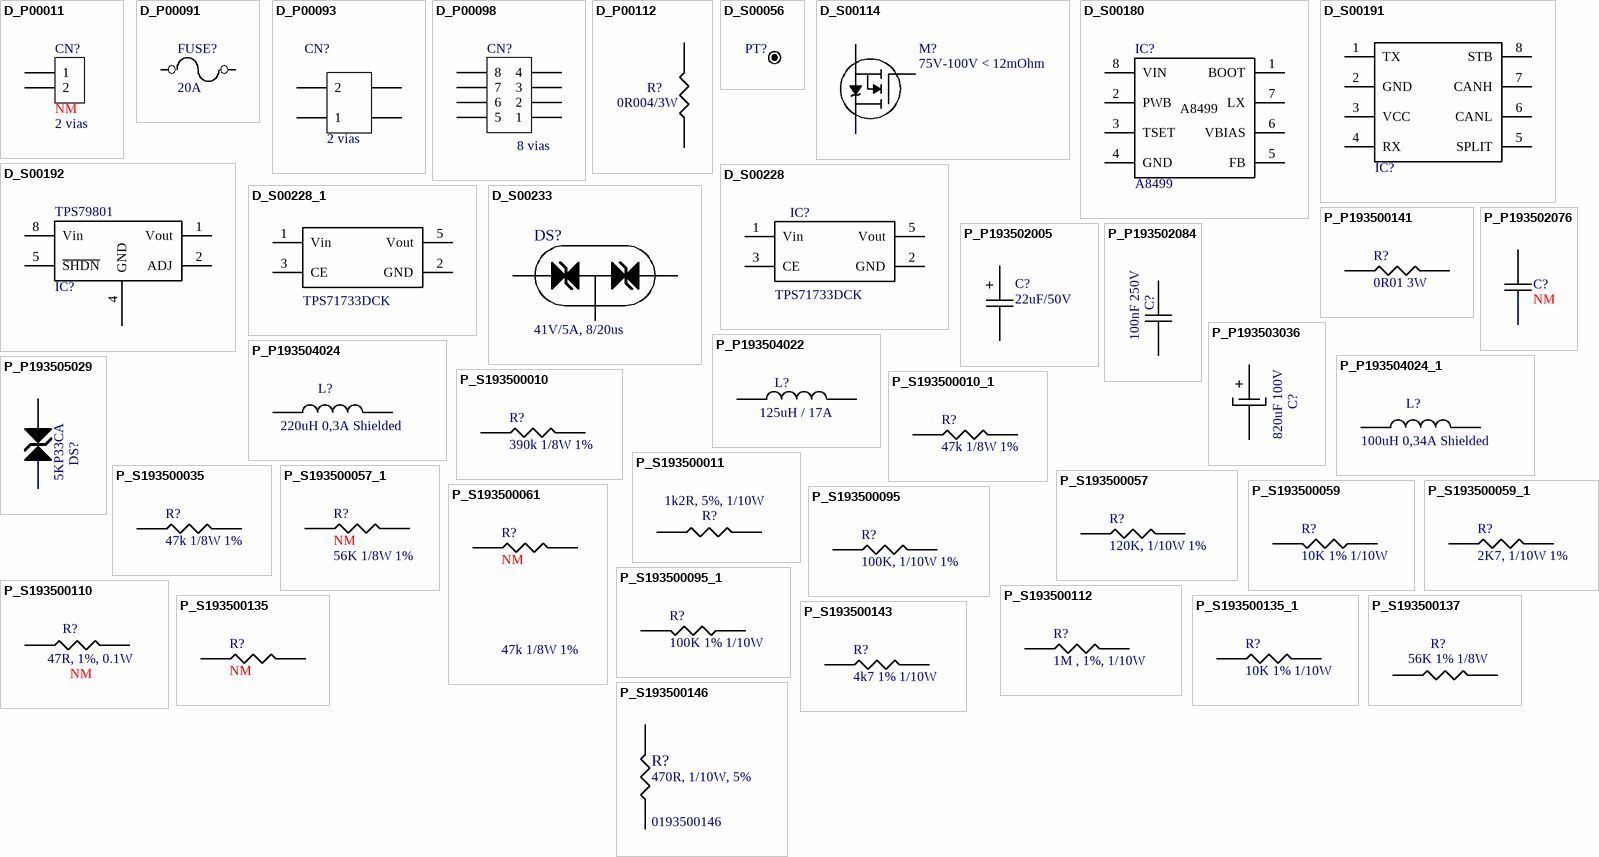
[diagram p10: symbols D_P00011 to P_S193500146]

## D_P00011
designator CN?  value 2 vias  Obs: NM  (hidden comment: D_P00011)
2 vias; DES: CN501; Fabricante: Tyco; Descrição: 2 vias
footprint CON_HEADER_2x4.14
pins: 1, 2

## D_P00091
designator FUSE?, comment value 20A  (hidden comment: Comment)
20A; Part number: 297020; DES: FUSE; Descrição: Fusível Mini Blade 20A; Fabricante: Littelfuse; Tipo: PTH
footprint FUSE-50X20_V0
footprint FUSE_BLADE
footprint FUSE_BLADE_V1
pins: 1, 2

## D_P00093
designator CN?, comment value 2 vias  (hidden comment: Comment)
2 vias; DES: CN101; Descrição: XXX; Fabricante: Tyco; Tipo: PTH
footprint CON_HEADER_6x4.14
footprint CON_HEADER-2vias - Molex 42819-2213
footprint CON_HEADER-2VIAS - MOLEX 42819-2213_V1
pins: 1, 2, 3, 4

## D_P00098
designator CN?, comment value 8 vias  (hidden comment: Comment)
8 vias; DES: CN401; Fabricante: Tyco; Descrição: 8 vias
footprint CON_HEADER_8x4.14
pins: 1, 2, 3, 4, 5, 6, 7, 8

## D_P00112
designator R?  value 0R004/3W  (hidden comment: *)
0R004/3W; Part number: WSL39214L000FEA; Descrição: Resistor shunt 0R004 3W SMD; Fabricante: Vishay; Tipo: SMT; EECON CODE: new
footprint Res_WSR3
footprint RES_WSR3_V1
pins: 1, 2

## D_S00056
designator PT?, comment Comment  (value not drawn)
D_S00056; Text Field1: PTICT; Text Field2: EXO; Text Field3: PT
footprint PTICT_V0
pins: 1

## D_S00114
designator M?  value 75V-100V < 12mOhm  (hidden comment: *)
75V-100V < 12mOhm; Part number: IRF2807ZPBF; Text Field5: BUK7610-100B / Philips; DES: M101; Descrição: MOSFET 75V-100V < 12mOhm D2PAK; Fabricante: IR; Tipo: SMT; Case: D2PAK
footprint D2PAK_O_V0
footprint D2PAK_O_V0
footprint D2PAK_R_V0
pins: 1 GATE, 2 DRAIN, 3 SOURCE

## D_S00180
designator IC?  value A8499  (hidden comment: D_S00180)
A8499; Component: TL3437; DES: IC203; Descrição: Regulador chaveado 1,5A; Fabricante: Allegro; Tipo: SMT; Case: SO-8; Part Number: A8499
footprint R-PDSO-G8_R_V0
footprint R-PDSO-G8_O_V0
footprint SO-8_R_V1
pins: 1 BOOT, 2 PWB, 3 TSET, 4 GND, 5 FB, 6 VBIAS, 7 LX, 8 VIN

## D_S00191
designator IC?  (value not drawn)
Text Field2: TJA1040TD-T; Text Field3: NXP; Text Field1: 5V CAN TRANSCEIVERS; Text Field4: SN65HVD1040A-Q1; Text Field5: TEXAS; EECON CODE: new
footprint SO-8_R_V0
footprint R-PDSO-G8_O_V0
pins: 1 TX, 2 GND, 3 VCC, 4 RX, 5 SPLIT, 6 CANL, 7 CANH, 8 STB

## D_S00192
designator IC?  value TPS79801  (hidden comment: D_S00192)
TPS79801; Component: TPS7801; DES: IC201; Descrição: Regulador linear LDO; Fabricante: Texas; Tipo: SMT; Part Number: TPS79801
footprint R-PDSO-G8_R_V0
footprint R-PDSO-G8_O_V0
footprint R-PDSO-G8_R_V1
pins: 1 Vout, 2 ADJ, 4 GND, 5 ~{SHDN}, 8 Vin

## D_S00228
designator IC?, comment value TPS71733DCK  (hidden comment: P_S193510032)
TPS71733DCK; Descrição: Regulador linear LDO 150mA / 3.3V; Fabricante: TEXAS; Tipo: SMT; Case: SC-70-5L; Part number: TPS71733DCK
footprint SC70-5_R_V0
footprint SOT-23-5_R_V1
pins: 1 Vin, 2 GND, 3 CE, 5 Vout

## D_S00228_1
designator IC204b?, comment value TPS71733DCK  (hidden comment: P_S193510032)
TPS71733DCK; Descrição: Regulador linear LDO 150mA / 3.3V; Fabricante: TEXAS; Tipo: SMT; Case: SC-70-5L; Part number: TPS71733DCK
footprint SC70-5_R_V0
pins: 1 Vin, 2 GND, 3 CE, 5 Vout

## D_S00233
designator DS?  value 41V/5A, 8/20us  (hidden comment: D_S00233)
41V/5A, 8/20us; Text Field1: CAN BUS ESD PROTECTION DIODE; EECON CODE: new; Text Field3: NXP; Text Field2: PESD2CAN,215; Text Field4: 9340 601 18215; Text Field5: NXP
footprint SOT-23_R_V0
footprint SOT-23_O_V0
pins: 1, 2, 3

## P_P193500141
designator R?  value 0R01 3W  (hidden comment: *)
0R01 3W; Part number: WSR3R0100FEA; DES: R401; Descrição: Resistor shunt 0R01 3W SMD; Fabricante: Vishay
footprint Res_WSR3
footprint RES_WSR3_V1
pins: 1, 2

## P_P193502005
designator C?, comment value 22uF/50V  (hidden comment: P_S193503010)
22uF/50V; Text Field1: ELET. CAP., 22uF/50VF, 2000h, 105C; Text Field2: B41851 A6226M007 @ AMMOPACK 2000PÇS; Text Field3: EPCOS; EECON CODE: xxx; Text Field4: 2222 116 51229 @ BULK 1000PÇS; Text Field5: BC COMPONENTS
footprint RB.1/.2_V0
footprint RB.1/.2_V3
pins: 1, 2
text: +

## P_P193502076
designator C?  value NM  (hidden comment: *)
NM; DES: C305; Descrição: Capacitor size 1206
footprint CAP-EMC-TAM-C_V0
footprint CAP-EMC-TAM-B_V0
footprint CAP-EMC-TAM-B_V1
footprint 2010_R_V0
footprint 1206_R_V0
pins: 1, 2

## P_P193502084
designator C?  value 100nF 250V  (hidden comment: *)
100nF 250V; Text Field1: POLYPROPYLENE CAP., 100nF/250V; Text Field3: BC COMPONENTS; EECON CODE: 193502084; DES: C101; Descrição: Capacitor Poliéster 100nF 250V; Tipo: PTH; Text Field5: BC COMPONENTS; Text Field7: BC COMPONENTS
footprint CAP-EMC-TAM-B_V0
footprint CAP-EMC-TAM-B_V1
pins: 1, 2

## P_P193503036
designator C?  value 820uF 100V  (hidden comment: *)
820uF 100V; Part number: UHE2A821; DES: C302; Descrição: Capacitor 820uF 100V série HE; Fabricante: Nichicon; Tipo: PTH
footprint CAP-ELETR-TAM-B_V0
footprint C10X30X40B_V0
footprint CAP-ELETR-18X40_V0
pins: 1, 2
text: +

## P_P193504022
designator L?  value 125uH / 17A  (hidden comment: *)
125uH / 17A; DES: L301; Descrição: Indutor 125uH 17A; Fabricante: Delta; Tipo: PTH
footprint IND_46MM_TOROIDAL_V0
footprint IND_305-10_COILS
footprint IND_46MM_TOROIDAL_V3
pins: 1, 2

## P_P193504024
designator L?  value 220uH 0,3A Shielded  (hidden comment: *)
220uH 0,3A Shielded; Part number: LPS6235-224MLC; DES: L201; Descrição: Indutor SMT 220uH 0,3A Blindado; Fabricante: Coilcraft; Tipo: SMT
footprint INDUCTOR-10_V0
footprint INDUCTOR-11_V0
footprint Inductor_SLF_V0
footprint Inductor_LPS_V0
pins: 1, 2

## P_P193504024_1
designator L?  value 100uH 0,34A Shielded  (hidden comment: *)
100uH 0,34A Shielded; Part number: LPS4018-104MLB; DES: L202; Descrição: Indutor SMT 100uH 0,34A Blindado; Fabricante: Coilcraft; Tipo: SMT; EECON CODE: new
footprint INDUCTOR-10_V0
footprint INDUCTOR-11_V0
footprint Inductor_SLF_V0
footprint Inductor_LPS_V0
footprint INDUCTOR_LPS_V1
pins: 1, 2

## P_P193505029
designator DS?  value 5KP33CA  (hidden comment: *)
5KP33CA; DES: DS101; Descrição: Diodo supressor 36V 5000W bidirecional; Fabricante: Littelfuse; Obs: Solução padrão atual; Tipo: PTH; Part number: 5KP33CA
footprint DIODE-R6 (Zener Diode; 2 Leads)
footprint SOD-123_O_V0
footprint DIODE-R6_V1
footprint DIODE-R6_V2
footprint DIODE-R6_V3
footprint DIODE-R6_V4
pins: 1, 2

## P_S193500010
designator R?  value 390k 1/8W 1%  (hidden comment: P_S193500010)
390k 1/8W 1%; DES: R210; Descrição: Resistor filme 0805 390k 1/8W 1%; Fabricante: Yageo / Phycomp; Tipo: SMT; 12K, 5%, 0.1W: *; Case: 0805
footprint 0603_R_V0
footprint 0603_O_V0
footprint 0805_R_V0
footprint 0805_R_V3
pins: 1, 2

## P_S193500010_1
designator R?, comment value 47k 1/8W 1%  (hidden comment: P_S193500010)
47k 1/8W 1%; DES: R208; Descrição: Resistor filme 0805 47k 1/8W 1%; Fabricante: Yageo / Phycomp; Tipo: SMT; Case: 0805
footprint 0603_R_V0
footprint 0603_O_V0
footprint 0805_R_V0
pins: 1, 2